# EAGLE library part MT7621A (library ds_ic_peripherals)
MediaTek MT7621A Wi‑Fi SoC contains a powerful 880 MHz MIPS® 1004KEc™ dual‑core CPU, a 5‑port Gigabit Ethernet switch, and a rich array of connectivity options including RGMII, PCIe, USB, SD‑XC, and so on. The new SoC also includes the company’s field proven hardware support for Network Address Translation (NAT), Quality of Service (QoS), SAMBA, Virtual Private Network (VPN) and others routing and tunneling applications, ideal for high performance Wi‑Fi 5, LTE cat4/5, edge, hotspot, VPN routers, NAS, and AC ( Access Point Controller), smart routers routers. Moreover, the MT7621A applies low‑power technology and can fit into 2/4 layers PCB design with good power dissipation.
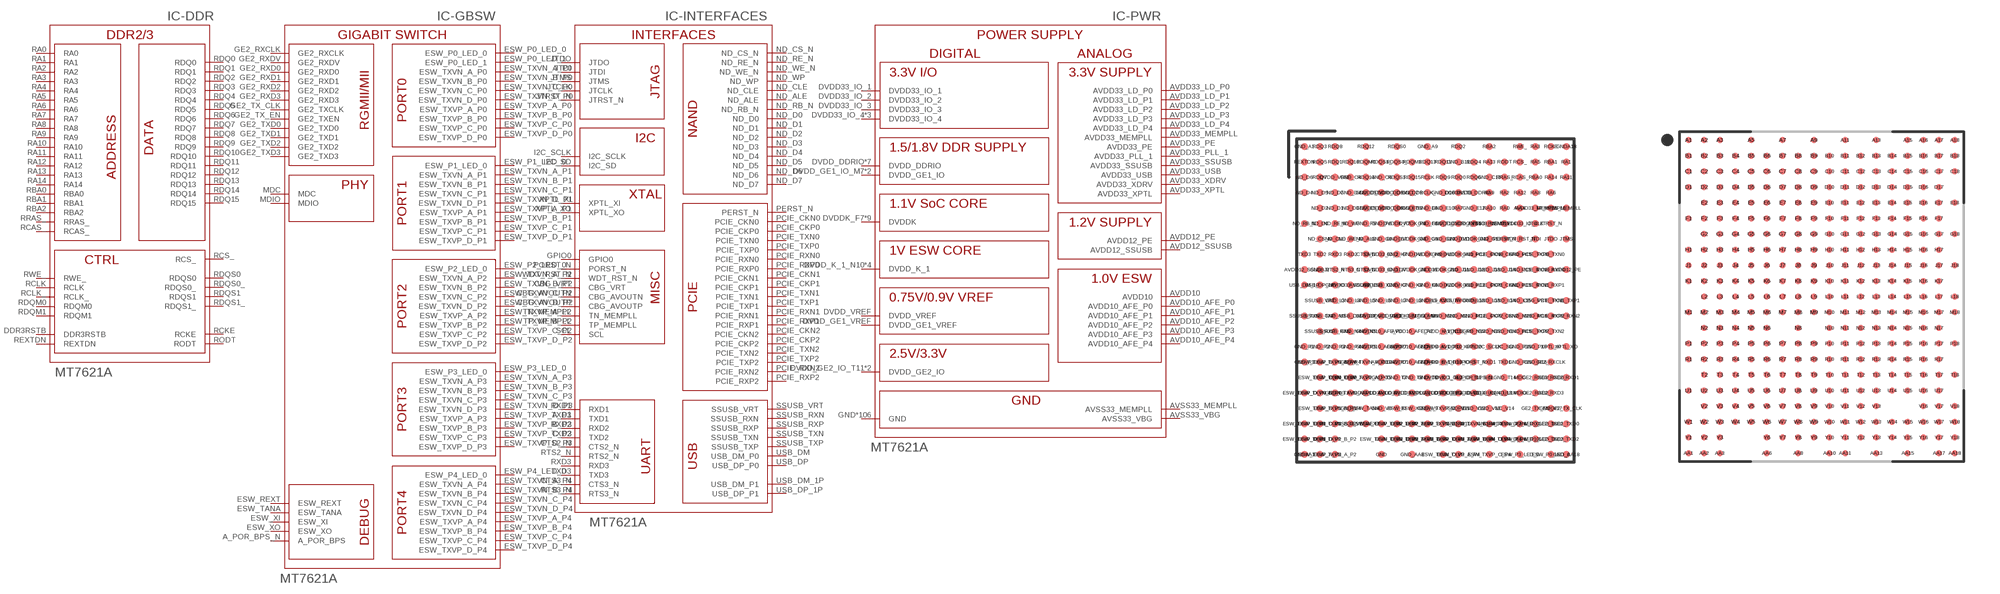
[diagram p62: symbol with the pads of TFBGA-387; footprints TFBGA-387, BGA378C65P18X21_1360X1170X130N]

Designator prefix IC; gates -DDR=MT7621_DDR -GBSW=MT7621_GBSW -INTERFACES=MT7621_INTERFACES -PWR=MT7621_SUPPLY

## MT7621A (MT7621: MT7621A)  [TFBGA-387]
A_POR_BPS_N  -GBSW:A_POR_BPS
AVDD10  -PWR:AVDD10
AVDD10_AFE_P0  -PWR:AVDD10_AFE_P0
AVDD10_AFE_P1  -PWR:AVDD10_AFE_P1
AVDD10_AFE_P2  -PWR:AVDD10_AFE_P2
AVDD10_AFE_P3  -PWR:AVDD10_AFE_P3
AVDD10_AFE_P4  -PWR:AVDD10_AFE_P4
AVDD12_PE  -PWR:AVDD12_PE
AVDD12_SSUSB  -PWR:AVDD12_SSUSB
AVDD33_LD_P0  -PWR:AVDD33_LD_P0
AVDD33_LD_P1  -PWR:AVDD33_LD_P1
AVDD33_LD_P2  -PWR:AVDD33_LD_P2
AVDD33_LD_P3  -PWR:AVDD33_LD_P3
AVDD33_LD_P4  -PWR:AVDD33_LD_P4
AVDD33_MEMPLL  -PWR:AVDD33_MEMPLL
AVDD33_PE  -PWR:AVDD33_PE
AVDD33_PLL_1  -PWR:AVDD33_PLL_1
AVDD33_SSUSB  -PWR:AVDD33_SSUSB
AVDD33_USB  -PWR:AVDD33_USB
AVDD33_XDRV  -PWR:AVDD33_XDRV
AVDD33_XPTL  -PWR:AVDD33_XPTL
AVSS33_MEMPLL  -PWR:AVSS33_MEMPLL
AVSS33_VBG  -PWR:AVSS33_VBG
CBG_AVOUTN  -INTERFACES:CBG_AVOUTN
CBG_AVOUTP  -INTERFACES:CBG_AVOUTP
CBG_VRT  -INTERFACES:CBG_VRT
CTS2_N  -INTERFACES:CTS2_N
CTS3_N  -INTERFACES:CTS3_N
DDR3RSTB  -DDR:DDR3RSTB
DVDD33_IO_1  -PWR:DVDD33_IO_1
DVDD33_IO_2  -PWR:DVDD33_IO_2
DVDD33_IO_3  -PWR:DVDD33_IO_3
DVDD33_IO_4  -PWR:DVDD33_IO_4
DVDD33_IO_4_U12  -PWR:DVDD33_IO_4
DVDD33_IO_4_U13  -PWR:DVDD33_IO_4
DVDD_DDRIO  -PWR:DVDD_DDRIO
DVDD_DDRIO_D6  -PWR:DVDD_DDRIO
DVDD_DDRIO_D7  -PWR:DVDD_DDRIO
DVDD_DDRIO_E6  -PWR:DVDD_DDRIO
DVDD_DDRIO_E7  -PWR:DVDD_DDRIO
DVDD_DDRIO_F11  -PWR:DVDD_DDRIO
DVDD_DDRIO_F12  -PWR:DVDD_DDRIO
DVDD_GE1_IO_M7  -PWR:DVDD_GE1_IO
DVDD_GE1_IO_M8  -PWR:DVDD_GE1_IO
DVDD_GE1_VREF  -PWR:DVDD_GE1_VREF
DVDD_GE2_IO_T11  -PWR:DVDD_GE2_IO
DVDD_GE2_IO_U11  -PWR:DVDD_GE2_IO
DVDD_K_1_N10  -PWR:DVDD_K_1
DVDD_K_1_P10  -PWR:DVDD_K_1
DVDD_K_1_R10  -PWR:DVDD_K_1
DVDD_K_1_T10  -PWR:DVDD_K_1
DVDD_VREF  -PWR:DVDD_VREF
DVDDK_F7  -PWR:DVDDK
DVDDK_F8  -PWR:DVDDK
DVDDK_G8  -PWR:DVDDK
DVDDK_G12  -PWR:DVDDK
DVDDK_H9  -PWR:DVDDK
DVDDK_H11  -PWR:DVDDK
DVDDK_J8  -PWR:DVDDK
DVDDK_J10  -PWR:DVDDK
DVDDK_K11  -PWR:DVDDK
ESW_P0_LED_0  -GBSW:ESW_P0_LED_0
ESW_P0_LED_1  -GBSW:ESW_P0_LED_1
ESW_P1_LED_0  -GBSW:ESW_P1_LED_0
ESW_P2_LED_0  -GBSW:ESW_P2_LED_0
ESW_P3_LED_0  -GBSW:ESW_P3_LED_0
ESW_P4_LED_0  -GBSW:ESW_P4_LED_0
ESW_REXT  -GBSW:ESW_REXT
ESW_TANA  -GBSW:ESW_TANA
ESW_TXVN_A_P0  -GBSW:ESW_TXVN_A_P0
ESW_TXVN_A_P1  -GBSW:ESW_TXVN_A_P1
ESW_TXVN_A_P2  -GBSW:ESW_TXVN_A_P2
ESW_TXVN_A_P3  -GBSW:ESW_TXVN_A_P3
ESW_TXVN_A_P4  -GBSW:ESW_TXVN_A_P4
ESW_TXVN_B_P0  -GBSW:ESW_TXVN_B_P0
ESW_TXVN_B_P1  -GBSW:ESW_TXVN_B_P1
ESW_TXVN_B_P2  -GBSW:ESW_TXVN_B_P2
ESW_TXVN_B_P3  -GBSW:ESW_TXVN_B_P3
ESW_TXVN_B_P4  -GBSW:ESW_TXVN_B_P4
ESW_TXVN_C_P0  -GBSW:ESW_TXVN_C_P0
ESW_TXVN_C_P1  -GBSW:ESW_TXVN_C_P1
ESW_TXVN_C_P2  -GBSW:ESW_TXVN_C_P2
ESW_TXVN_C_P3  -GBSW:ESW_TXVN_C_P3
ESW_TXVN_C_P4  -GBSW:ESW_TXVN_C_P4
ESW_TXVN_D_P0  -GBSW:ESW_TXVN_D_P0
ESW_TXVN_D_P1  -GBSW:ESW_TXVN_D_P1
ESW_TXVN_D_P2  -GBSW:ESW_TXVN_D_P2
ESW_TXVN_D_P3  -GBSW:ESW_TXVN_D_P3
ESW_TXVN_D_P4  -GBSW:ESW_TXVN_D_P4
ESW_TXVP_A_P0  -GBSW:ESW_TXVP_A_P0
ESW_TXVP_A_P1  -GBSW:ESW_TXVP_A_P1
ESW_TXVP_A_P2  -GBSW:ESW_TXVP_A_P2
ESW_TXVP_A_P3  -GBSW:ESW_TXVP_A_P3
ESW_TXVP_A_P4  -GBSW:ESW_TXVP_A_P4
ESW_TXVP_B_P0  -GBSW:ESW_TXVP_B_P0
ESW_TXVP_B_P1  -GBSW:ESW_TXVP_B_P1
ESW_TXVP_B_P2  -GBSW:ESW_TXVP_B_P2
ESW_TXVP_B_P3  -GBSW:ESW_TXVP_B_P3
ESW_TXVP_B_P4  -GBSW:ESW_TXVP_B_P4
ESW_TXVP_C_P0  -GBSW:ESW_TXVP_C_P0
ESW_TXVP_C_P1  -GBSW:ESW_TXVP_C_P1
ESW_TXVP_C_P2  -GBSW:ESW_TXVP_C_P2
ESW_TXVP_C_P3  -GBSW:ESW_TXVP_C_P3
ESW_TXVP_C_P4  -GBSW:ESW_TXVP_C_P4
ESW_TXVP_D_P0  -GBSW:ESW_TXVP_D_P0
ESW_TXVP_D_P1  -GBSW:ESW_TXVP_D_P1
ESW_TXVP_D_P2  -GBSW:ESW_TXVP_D_P2
ESW_TXVP_D_P3  -GBSW:ESW_TXVP_D_P3
ESW_TXVP_D_P4  -GBSW:ESW_TXVP_D_P4
ESW_XI  -GBSW:ESW_XI
ESW_XO  -GBSW:ESW_XO
GE2_RXCLK  -GBSW:GE2_RXCLK
GE2_RXD0  -GBSW:GE2_RXD0
GE2_RXD1  -GBSW:GE2_RXD1
GE2_RXD2  -GBSW:GE2_RXD2
GE2_RXD3  -GBSW:GE2_RXD3
GE2_RXDV  -GBSW:GE2_RXDV
GE2_TX_CLK  -GBSW:GE2_TXCLK
GE2_TX_EN  -GBSW:GE2_TXEN
GE2_TXD0  -GBSW:GE2_TXD0
GE2_TXD1  -GBSW:GE2_TXD1
GE2_TXD2  -GBSW:GE2_TXD2
GE2_TXD3  -GBSW:GE2_TXD3
GND  -PWR:GND
GND_A1  -PWR:GND
GND_A9  -PWR:GND
GND_AA8  -PWR:GND
GND_AA18  -PWR:GND
GND_B11  -PWR:GND
GND_C4  -PWR:GND
GND_C6  -PWR:GND
GND_C13  -PWR:GND
GND_D4  -PWR:GND
GND_D5  -PWR:GND
GND_D8  -PWR:GND
GND_D9  -PWR:GND
GND_D10  -PWR:GND
GND_E5  -PWR:GND
GND_E9  -PWR:GND
GND_E10  -PWR:GND
GND_E12  -PWR:GND
GND_F5  -PWR:GND
GND_F6  -PWR:GND
GND_F9  -PWR:GND
GND_F10  -PWR:GND
GND_F14  -PWR:GND
GND_G6  -PWR:GND
GND_G7  -PWR:GND
GND_G9  -PWR:GND
GND_G10  -PWR:GND
GND_G11  -PWR:GND
GND_G13  -PWR:GND
GND_H7  -PWR:GND
GND_H8  -PWR:GND
GND_H10  -PWR:GND
GND_H12  -PWR:GND
GND_H15  -PWR:GND
GND_J2  -PWR:GND
GND_J7  -PWR:GND
GND_J9  -PWR:GND
GND_J11  -PWR:GND
GND_J12  -PWR:GND
GND_J13  -PWR:GND
GND_J14  -PWR:GND
GND_J15  -PWR:GND
GND_K3  -PWR:GND
GND_K7  -PWR:GND
GND_K8  -PWR:GND
GND_K9  -PWR:GND
GND_K10  -PWR:GND
GND_K12  -PWR:GND
GND_K15  -PWR:GND
GND_L3  -PWR:GND
GND_L4  -PWR:GND
GND_L5  -PWR:GND
GND_L6  -PWR:GND
GND_L7  -PWR:GND
GND_L8  -PWR:GND
GND_L9  -PWR:GND
GND_L12  -PWR:GND
GND_L13  -PWR:GND
GND_L14  -PWR:GND
GND_L15  -PWR:GND
GND_M3  -PWR:GND
GND_M9  -PWR:GND
GND_M10  -PWR:GND
GND_M11  -PWR:GND
GND_M12  -PWR:GND
GND_M15  -PWR:GND
GND_M16  -PWR:GND
GND_N4  -PWR:GND
GND_N5  -PWR:GND
GND_N12  -PWR:GND
GND_N13  -PWR:GND
GND_N14  -PWR:GND
GND_N15  -PWR:GND
GND_P1  -PWR:GND
GND_P2  -PWR:GND
GND_P3  -PWR:GND
GND_P4  -PWR:GND
GND_P5  -PWR:GND
GND_P7  -PWR:GND
GND_P9  -PWR:GND
GND_P15  -PWR:GND
GND_P16  -PWR:GND
GND_R1  -PWR:GND
GND_R4  -PWR:GND
GND_R7  -PWR:GND
GND_R9  -PWR:GND
GND_R15  -PWR:GND
GND_R16  -PWR:GND
GND_T5  -PWR:GND
GND_T7  -PWR:GND
GND_T8  -PWR:GND
GND_T9  -PWR:GND
GND_T14  -PWR:GND
GND_U3  -PWR:GND
GND_U14  -PWR:GND
GND_V4  -PWR:GND
GND_V6  -PWR:GND
GND_V9  -PWR:GND
GND_V11  -PWR:GND
GND_V12  -PWR:GND
GND_V13  -PWR:GND
GND_V17  -PWR:GND
GND_W11  -PWR:GND
GND_W14  -PWR:GND
GNDA18  -PWR:GND
GNDAA1  -PWR:GND
GPIO0  -INTERFACES:GPIO0
I2C_SCLK  -INTERFACES:I2C_SCLK
I2C_SD  -INTERFACES:I2C_SD
JTCLK  -INTERFACES:JTCLK
JTDI  -INTERFACES:JTDI
JTDO  -INTERFACES:JTDO
JTMS  -INTERFACES:JTMS
JTRST_N  -INTERFACES:JTRST_N
MDC  -GBSW:MDC
MDIO  -GBSW:MDIO
ND_ALE  -INTERFACES:ND_ALE
ND_CLE  -INTERFACES:ND_CLE
ND_CS_N  -INTERFACES:ND_CS_N
ND_D0  -INTERFACES:ND_D0
ND_D1  -INTERFACES:ND_D1
ND_D2  -INTERFACES:ND_D2
ND_D3  -INTERFACES:ND_D3
ND_D4  -INTERFACES:ND_D4
ND_D5  -INTERFACES:ND_D5
ND_D6  -INTERFACES:ND_D6
ND_D7  -INTERFACES:ND_D7
ND_RB_N  -INTERFACES:ND_RB_N
ND_RE_N  -INTERFACES:ND_RE_N
ND_WE_N  -INTERFACES:ND_WE_N
ND_WP  -INTERFACES:ND_WP
PCIE_CKN0  -INTERFACES:PCIE_CKN0
PCIE_CKN1  -INTERFACES:PCIE_CKN1
PCIE_CKN2  -INTERFACES:PCIE_CKN2
PCIE_CKP0  -INTERFACES:PCIE_CKP0
PCIE_CKP1  -INTERFACES:PCIE_CKP1
PCIE_CKP2  -INTERFACES:PCIE_CKP2
PCIE_RXN0  -INTERFACES:PCIE_RXN0
PCIE_RXN1  -INTERFACES:PCIE_RXN1
PCIE_RXN2  -INTERFACES:PCIE_RXN2
PCIE_RXP0  -INTERFACES:PCIE_RXP0
PCIE_RXP1  -INTERFACES:PCIE_RXP1
PCIE_RXP2  -INTERFACES:PCIE_RXP2
PCIE_TXN0  -INTERFACES:PCIE_TXN0
PCIE_TXN1  -INTERFACES:PCIE_TXN1
PCIE_TXN2  -INTERFACES:PCIE_TXN2
PCIE_TXP0  -INTERFACES:PCIE_TXP0
PCIE_TXP1  -INTERFACES:PCIE_TXP1
PCIE_TXP2  -INTERFACES:PCIE_TXP2
PERST_N  -INTERFACES:PERST_N
PORST_N  -INTERFACES:PORST_N
RA0  -DDR:RA0
RA1  -DDR:RA1
RA2  -DDR:RA2
RA3  -DDR:RA3
RA4  -DDR:RA4
RA5  -DDR:RA5
RA6  -DDR:RA6
RA7  -DDR:RA7
RA8  -DDR:RA8
RA9  -DDR:RA9
RA10  -DDR:RA10
RA11  -DDR:RA11
RA12  -DDR:RA12
RA13  -DDR:RA13
RA14  -DDR:RA14
RBA0  -DDR:RBA0
RBA1  -DDR:RBA1
RBA2  -DDR:RBA2
RCAS_  -DDR:RCAS_
RCKE  -DDR:RCKE
RCLK  -DDR:RCLK
RCLK_  -DDR:RCLK_
RCS_  -DDR:RCS_
RDQ0  -DDR:RDQ0
RDQ1  -DDR:RDQ1
RDQ2  -DDR:RDQ2
RDQ3  -DDR:RDQ3
RDQ4  -DDR:RDQ4
RDQ5  -DDR:RDQ5
RDQ6  -DDR:RDQ6
RDQ7  -DDR:RDQ7
RDQ8  -DDR:RDQ8
RDQ9  -DDR:RDQ9
RDQ10  -DDR:RDQ10
RDQ11  -DDR:RDQ11
RDQ12  -DDR:RDQ12
RDQ13  -DDR:RDQ13
RDQ14  -DDR:RDQ14
RDQ15  -DDR:RDQ15
RDQM0  -DDR:RDQM0
RDQM1  -DDR:RDQM1
RDQS0  -DDR:RDQS0
RDQS0_  -DDR:RDQS0_
RDQS1  -DDR:RDQS1
RDQS1_  -DDR:RDQS1_
REXTDN  -DDR:REXTDN
RODT  -DDR:RODT
RRAS_  -DDR:RRAS_
RTS2_N  -INTERFACES:RTS2_N
RTS3_N  -INTERFACES:RTS3_N
RWE_  -DDR:RWE_
RXD1  -INTERFACES:RXD1
RXD2  -INTERFACES:RXD2
RXD3  -INTERFACES:RXD3
SCL  -INTERFACES:SCL
SSUSB_RXN  -INTERFACES:SSUSB_RXN
SSUSB_RXP  -INTERFACES:SSUSB_RXP
SSUSB_TXN  -INTERFACES:SSUSB_TXN
SSUSB_TXP  -INTERFACES:SSUSB_TXP
SSUSB_VRT  -INTERFACES:SSUSB_VRT
TN_MEMPLL  -INTERFACES:TN_MEMPLL
TP_MEMPLL  -INTERFACES:TP_MEMPLL
TXD1  -INTERFACES:TXD1
TXD2  -INTERFACES:TXD2
TXD3  -INTERFACES:TXD3
USB_DM  -INTERFACES:USB_DM_P0
USB_DM_1P  -INTERFACES:USB_DM_P1
USB_DP  -INTERFACES:USB_DP_P0
USB_DP_1P  -INTERFACES:USB_DP_P1
WDT_RST_N  -INTERFACES:WDT_RST_N
XPTL_XI  -INTERFACES:XPTL_XI
XPTL_XO  -INTERFACES:XPTL_XO

## MT7621A-TFBGA387  [BGA378C65P18X21_1360X1170X130N]
A1  -PWR:GND
A2  -DDR:RDQ3
A3  -DDR:RDQ8
A5  -DDR:RDQ12
A7  -DDR:RDQS0
A9  -PWR:GND
A11  -DDR:RDQ2
A13  -DDR:RBA2
A15  -DDR:RWE_
A16  -DDR:RA3
A17  -DDR:RCKE
A18  -PWR:GND
AA1  -PWR:GND
AA2  -GBSW:ESW_TXVP_A_P2
AA3  -GBSW:ESW_TXVN_A_P2
AA6  -PWR:GND
AA8  -PWR:GND
AA10  -GBSW:ESW_TXVN_C_P3
AA11  -GBSW:ESW_TXVP_A_P4
AA13  -GBSW:ESW_TXVP_C_P4
AA15  -GBSW:ESW_P3_LED_0
AA17  -GBSW:ESW_P0_LED_0
AA18  -PWR:GND
B1  -DDR:REXTDN
B2  -DDR:RDQ5
B3  -DDR:RDQ1
B4  -DDR:RDQ10
B5  -DDR:RDQM0
B6  -DDR:RDQS1_
B7  -DDR:RDQS0_
B8  -DDR:RDQM1
B9  -DDR:RDQ13
B10  -DDR:RDQ11
B11  -PWR:GND
B12  -DDR:RDQ4
B13  -DDR:RA13
B14  -DDR:RODT
B15  -DDR:RCS_
B16  -DDR:RA5
B17  -DDR:RBA1
B18  -DDR:RA1
C1  -INTERFACES:ND_D6
C2  -DDR:RDQ7
C3  -PWR:DVDD_VREF
C4  -PWR:GND
C5  -DDR:RDQ14
C6  -PWR:GND
C7  -DDR:RDQS1
C8  -DDR:RDQ15
C9  -DDR:RCLK
C10  -DDR:RDQ9
C11  -DDR:RDQ0
C12  -DDR:RDQ6
C13  -PWR:GND
C14  -DDR:RRAS_
C15  -DDR:RCAS_
C16  -DDR:RBA0
C17  -DDR:RA14
C18  -DDR:RA11
D1  -INTERFACES:ND_D4
D2  -INTERFACES:ND_D5
D3  -INTERFACES:ND_D7
D4  -PWR:GND
D5  -PWR:GND
D6  -PWR:DVDD_DDRIO
D7  -PWR:DVDD_DDRIO
D8  -PWR:GND
D9  -DDR:RCLK_
D10  -PWR:GND
D11  -DDR:DDR3RSTB
D12  -PWR:DVDD_DDRIO
D13  -DDR:RA9
D14  -DDR:RA2
D15  -DDR:RA12
D16  -DDR:RA8
D17  -DDR:RA6
E2  -INTERFACES:ND_D2
E3  -INTERFACES:ND_D1
E4  -INTERFACES:ND_D3
E5  -PWR:GND
E6  -PWR:DVDD_DDRIO
E7  -PWR:DVDD_DDRIO
E8  -PWR:GND
E9  -PWR:GND
E10  -PWR:GND
E11  -DDR:RA7
E12  -PWR:GND
E13  -DDR:RA10
E14  -DDR:RA0
E15  -DDR:RA4
E16  -PWR:AVDD33_MEMPLL
E17  -INTERFACES:TP_MEMPLL
E18  -INTERFACES:TN_MEMPLL
F1  -INTERFACES:ND_RB_N
F2  -INTERFACES:ND_D0
F3  -INTERFACES:ND_RE_N
F4  -INTERFACES:ND_WP
F5  -PWR:GND
F6  -PWR:GND
F7  -PWR:DVDDK
F8  -PWR:DVDDK
F9  -PWR:GND
F10  -PWR:GND
F11  -PWR:DVDD_DDRIO
F12  -PWR:DVDD_DDRIO
F13  -PWR:AVSS33_MEMPLL
F14  -PWR:GND
F15  -PWR:DVDD33_IO_4
F16  -INTERFACES:JTCLK
F17  -INTERFACES:JTRST_N
G2  -INTERFACES:ND_CS_N
G3  -INTERFACES:ND_CLE
G4  -INTERFACES:ND_WE_N
G5  -INTERFACES:ND_ALE
G6  -PWR:GND
G7  -PWR:GND
G8  -PWR:DVDDK
G9  -PWR:GND
G10  -PWR:GND
G11  -PWR:GND
G12  -PWR:DVDDK
G13  -PWR:GND
G14  -INTERFACES:PERST_N
G15  -INTERFACES:WDT_RST_N
G16  -INTERFACES:JTDI
G17  -INTERFACES:JTDO
G18  -INTERFACES:JTMS
H1  -INTERFACES:TXD3
H2  -INTERFACES:TXD2
H3  -INTERFACES:RXD3
H4  -INTERFACES:RXD2
H5  -INTERFACES:CTS3_N
H6  -PWR:DVDD33_IO_2
H7  -PWR:GND
H8  -PWR:GND
H9  -PWR:DVDDK
H10  -PWR:GND
H11  -PWR:DVDDK
H12  -PWR:GND
H13  -INTERFACES:PCIE_CKN0
H14  -INTERFACES:PCIE_CKP0
H15  -PWR:GND
H16  -INTERFACES:PCIE_TXP0
H17  -INTERFACES:PCIE_TXN0
J1  -PWR:AVDD12_SSUSB
J2  -PWR:GND
J3  -INTERFACES:RTS2_N
J4  -INTERFACES:RTS3_N
J5  -INTERFACES:CTS2_N
J6  -PWR:DVDD33_IO_1
J7  -PWR:GND
J8  -PWR:DVDDK
J9  -PWR:GND
J10  -PWR:DVDDK
J11  -PWR:GND
J12  -PWR:GND
J13  -PWR:GND
J14  -PWR:GND
J15  -PWR:GND
J16  -INTERFACES:PCIE_RXN0
J17  -INTERFACES:PCIE_RXP0
J18  -PWR:AVDD12_PE
K1  -INTERFACES:USB_DM_P1
K2  -INTERFACES:USB_DP_P1
K3  -PWR:GND
K4  -PWR:AVDD33_SSUSB
K5  -PWR:AVDD33_USB
K6  -PWR:AVDD33_XDRV
K7  -PWR:GND
K8  -PWR:GND
K9  -PWR:GND
K10  -PWR:GND
K11  -PWR:DVDDK
K12  -PWR:GND
K13  -INTERFACES:PCIE_CKP1
K14  -INTERFACES:PCIE_CKN1
K15  -PWR:GND
K16  -INTERFACES:PCIE_RXN1
K17  -INTERFACES:PCIE_RXP1
L2  -INTERFACES:SSUSB_VRT
L3  -PWR:GND
L4  -PWR:GND
L5  -PWR:GND
L6  -PWR:GND
L7  -PWR:GND
L8  -PWR:GND
L9  -PWR:GND
L10  -INTERFACES:CBG_AVOUTP
L11  -INTERFACES:CBG_AVOUTN
L12  -PWR:GND
L13  -PWR:GND
L14  -PWR:GND
L15  -PWR:GND
L16  -INTERFACES:CBG_VRT
L17  -INTERFACES:PCIE_TXN1
L18  -INTERFACES:PCIE_TXP1
M1  -INTERFACES:SSUSB_TXN
M2  -INTERFACES:SSUSB_TXP
M3  -PWR:GND
M4  -INTERFACES:USB_DM_P0
M5  -INTERFACES:USB_DP_P0
M6  -PWR:DVDD_GE1_VREF
M7  -PWR:DVDD_GE1_IO
M8  -PWR:DVDD_GE1_IO
M9  -PWR:GND
M10  -PWR:GND
M11  -PWR:GND
M12  -PWR:GND
M13  -INTERFACES:PCIE_CKP2
M14  -INTERFACES:PCIE_CKN2
M15  -PWR:GND
M16  -PWR:GND
M17  -INTERFACES:PCIE_RXP2
M18  -INTERFACES:PCIE_RXN2
N2  -INTERFACES:SSUSB_RXP
N3  -INTERFACES:SSUSB_RXN
N4  -PWR:GND
N5  -PWR:GND
N6  -PWR:AVDD10_AFE_P0
N8  -PWR:AVDD10_AFE_P2
N10  -PWR:DVDD_K_1
N11  -PWR:AVDD33_PE
N12  -PWR:GND
N13  -PWR:GND
N14  -PWR:GND
N15  -PWR:GND
N16  -INTERFACES:PCIE_TXP2
N17  -INTERFACES:PCIE_TXN2
P1  -PWR:GND
P2  -PWR:GND
P3  -PWR:GND
P4  -PWR:GND
P5  -PWR:GND
P6  -PWR:AVDD10_AFE_P1
P7  -PWR:GND
P8  -PWR:AVDD10_AFE_P3
P9  -PWR:GND
P10  -PWR:DVDD_K_1
P11  -PWR:AVDD33_XPTL
P12  -INTERFACES:GPIO0
P13  -INTERFACES:I2C_SCLK
P14  -INTERFACES:I2C_SD
P15  -PWR:GND
P16  -PWR:GND
P17  -INTERFACES:XPTL_XI
P18  -INTERFACES:XPTL_XO
R1  -PWR:GND
R2  -GBSW:ESW_TXVP_B_P0
R3  -GBSW:ESW_TXVN_B_P0
R4  -PWR:GND
R5  -GBSW:ESW_TXVN_A_P0
R6  -PWR:AVDD10
R7  -PWR:GND
R8  -PWR:AVDD10_AFE_P4
R9  -PWR:GND
R10  -PWR:DVDD_K_1
R11  -PWR:DVDD33_IO_3
R12  -INTERFACES:PORST_N
R13  -INTERFACES:RXD1
R14  -INTERFACES:TXD1
R15  -PWR:GND
R16  -PWR:GND
R17  -GBSW:GE2_RXCLK
T2  -GBSW:ESW_TXVP_C_P0
T3  -GBSW:ESW_TXVN_C_P0
T4  -GBSW:ESW_TXVP_A_P1
T5  -GBSW:ESW_TXVP_A_P0
T6  -PWR:GND
T7  -PWR:GND
T8  -PWR:GND
T9  -PWR:GND
T10  -PWR:DVDD_K_1
T11  -PWR:DVDD_GE2_IO
T12  -GBSW:A_POR_BPS
T13  -INTERFACES:SCL
T14  -PWR:GND
T15  -GBSW:MDC
T16  -GBSW:GE2_RXDV
T17  -GBSW:GE2_RXD0
T18  -GBSW:GE2_RXD1
U1  -GBSW:ESW_TXVP_D_P0
U2  -GBSW:ESW_TXVN_D_P0
U3  -PWR:GND
U4  -GBSW:ESW_TXVN_A_P1
U5  -PWR:AVDD33_LD_P0
U6  -PWR:AVDD33_LD_P1
U7  -PWR:AVDD33_LD_P2
U8  -PWR:AVDD33_PLL_1
U9  -PWR:AVDD33_LD_P3
U10  -PWR:AVDD33_LD_P4
U11  -PWR:DVDD_GE2_IO
U12  -PWR:DVDD33_IO_4
U13  -PWR:DVDD33_IO_4
U14  -PWR:GND
U15  -GBSW:MDIO
U16  -GBSW:GE2_RXD2
U17  -GBSW:GE2_RXD3
V2  -GBSW:ESW_TXVP_B_P1
V3  -GBSW:ESW_TXVN_B_P1
V4  -PWR:GND
V5  -GBSW:ESW_TANA
V6  -PWR:GND
V7  -GBSW:ESW_XI
V8  -GBSW:ESW_XO
V9  -PWR:GND
V10  -GBSW:ESW_TXVP_D_P3
V11  -PWR:GND
V12  -PWR:GND
V13  -PWR:GND
V16  -GBSW:GE2_TXEN
V17  -PWR:GND
V18  -GBSW:GE2_TXCLK
W1  -GBSW:ESW_TXVP_C_P1
W2  -GBSW:ESW_TXVN_C_P1
W3  -GBSW:ESW_TXVN_B_P2
W4  -PWR:AVSS33_VBG
W5  -GBSW:ESW_REXT
W6  -GBSW:ESW_TXVP_C_P2
W7  -GBSW:ESW_TXVP_D_P2
W8  -GBSW:ESW_TXVP_A_P3
W9  -GBSW:ESW_TXVP_B_P3
W10  -GBSW:ESW_TXVN_D_P3
W11  -PWR:GND
W12  -GBSW:ESW_TXVN_B_P4
W13  -PWR:GND
W14  -GBSW:ESW_TXVN_D_P4
W15  -GBSW:ESW_P2_LED_0
W16  -GBSW:ESW_P0_LED_1
W17  -GBSW:GE2_TXD1
W18  -GBSW:GE2_TXD0
Y1  -GBSW:ESW_TXVP_D_P1
Y2  -GBSW:ESW_TXVN_D_P1
Y3  -GBSW:ESW_TXVP_B_P2
Y6  -GBSW:ESW_TXVN_C_P2
Y7  -GBSW:ESW_TXVN_D_P2
Y8  -GBSW:ESW_TXVN_A_P3
Y9  -GBSW:ESW_TXVN_B_P3
Y10  -GBSW:ESW_TXVP_C_P3
Y11  -GBSW:ESW_TXVN_A_P4
Y12  -GBSW:ESW_TXVP_B_P4
Y13  -GBSW:ESW_TXVN_C_P4
Y14  -GBSW:ESW_TXVP_D_P4
Y15  -GBSW:ESW_P4_LED_0
Y16  -GBSW:ESW_P1_LED_0
Y17  -GBSW:GE2_TXD3
Y18  -GBSW:GE2_TXD2

## Footprint TFBGA-387 (pad centres in mm)
smd 0.3 x 0.3: A_POR_BPS_N 1.625,-3.25; AVDD10 -2.275,-2.6; AVDD10_AFE_P0 -2.275,-1.3; AVDD10_AFE_P1 -2.275,-1.95; AVDD10_AFE_P2 -0.975,-1.3; AVDD10_AFE_P3 -0.975,-1.95; AVDD10_AFE_P4 -0.975,-2.6; AVDD12_PE 5.525,1.3; AVDD12_SSUSB -5.525,1.3; AVDD33_LD_P0 -2.925,-3.9; AVDD33_LD_P1 -2.275,-3.9; AVDD33_LD_P2 -1.625,-3.9; AVDD33_LD_P3 -0.325,-3.9; AVDD33_LD_P4 0.325,-3.9; AVDD33_MEMPLL 4.225,3.9; AVDD33_PE 0.975,-1.3; AVDD33_PLL_1 -0.975,-3.9; AVDD33_SSUSB -3.575,0.65; AVDD33_USB -2.925,0.65; AVDD33_XDRV -2.275,0.65; AVDD33_XPTL 0.975,-1.95; AVSS33_MEMPLL 2.275,3.25; AVSS33_VBG -3.575,-5.2; CBG_AVOUTN 0.975,0; CBG_AVOUTP 0.325,0; CBG_VRT 4.225,0; CTS2_N -2.925,1.3; CTS3_N -2.925,1.95; DDR3RSTB 0.975,4.55; DVDD33_IO_1 -2.275,1.3; DVDD33_IO_2 -2.275,1.95; DVDD33_IO_3 0.975,-2.6; DVDD33_IO_4 3.575,3.25; DVDD33_IO_4_U12 1.625,-3.9; DVDD33_IO_4_U13 2.275,-3.9; DVDD_DDRIO 1.625,4.55; DVDD_DDRIO_D6 -2.275,4.55; DVDD_DDRIO_D7 -1.625,4.55; DVDD_DDRIO_E6 -2.275,3.9; DVDD_DDRIO_E7 -1.625,3.9; DVDD_DDRIO_F11 0.975,3.25; DVDD_DDRIO_F12 1.625,3.25; DVDD_GE1_IO_M7 -1.625,-0.65; DVDD_GE1_IO_M8 -0.975,-0.65; DVDD_GE1_VREF -2.275,-0.65; DVDD_GE2_IO_T11 0.975,-3.25; DVDD_GE2_IO_U11 0.975,-3.9; DVDD_K_1_N10 0.325,-1.3; DVDD_K_1_P10 0.325,-1.95; DVDD_K_1_R10 0.325,-2.6; DVDD_K_1_T10 0.325,-3.25; DVDD_VREF -4.225,5.2; DVDDK_F7 -1.625,3.25; DVDDK_F8 -0.975,3.25; DVDDK_G8 -0.975,2.6; DVDDK_G12 1.625,2.6; DVDDK_H9 -0.325,1.95; DVDDK_H11 0.975,1.95; DVDDK_J8 -0.975,1.3; DVDDK_J10 0.325,1.3; DVDDK_K11 0.975,0.65; ESW_P0_LED_0 4.875,-6.5; ESW_P0_LED_1 4.225,-5.2; ESW_P1_LED_0 4.225,-5.85; ESW_P2_LED_0 3.575,-5.2; ESW_P3_LED_0 3.575,-6.5; ESW_P4_LED_0 3.575,-5.85; ESW_REXT -2.925,-5.2; ESW_TANA -2.925,-4.55; ESW_TXVN_A_P0 -2.925,-2.6; ESW_TXVN_A_P1 -3.575,-3.9; ESW_TXVN_A_P2 -4.225,-6.5; ESW_TXVN_A_P3 -0.975,-5.85; ESW_TXVN_A_P4 0.975,-5.85; ESW_TXVN_B_P0 -4.225,-2.6; ESW_TXVN_B_P1 -4.225,-4.55; ESW_TXVN_B_P2 -4.225,-5.2; ESW_TXVN_B_P3 -0.325,-5.85; ESW_TXVN_B_P4 1.625,-5.2; ESW_TXVN_C_P0 -4.225,-3.25; ESW_TXVN_C_P1 -4.875,-5.2; ESW_TXVN_C_P2 -2.275,-5.85; ESW_TXVN_C_P3 0.325,-6.5; ESW_TXVN_C_P4 2.275,-5.85; ESW_TXVN_D_P0 -4.875,-3.9; ESW_TXVN_D_P1 -4.875,-5.85; ESW_TXVN_D_P2 -1.625,-5.85; ESW_TXVN_D_P3 0.325,-5.2; ESW_TXVN_D_P4 2.925,-5.2; ESW_TXVP_A_P0 -2.925,-3.25; ESW_TXVP_A_P1 -3.575,-3.25; ESW_TXVP_A_P2 -4.875,-6.5; ESW_TXVP_A_P3 -0.975,-5.2; ESW_TXVP_A_P4 0.975,-6.5; ESW_TXVP_B_P0 -4.875,-2.6; ESW_TXVP_B_P1 -4.875,-4.55; ESW_TXVP_B_P2 -4.225,-5.85; ESW_TXVP_B_P3 -0.325,-5.2; ESW_TXVP_B_P4 1.625,-5.85; ESW_TXVP_C_P0 -4.875,-3.25; ESW_TXVP_C_P1 -5.525,-5.2; ESW_TXVP_C_P2 -2.275,-5.2; ESW_TXVP_C_P3 0.325,-5.85; ESW_TXVP_C_P4 2.275,-6.5; ESW_TXVP_D_P0 -5.525,-3.9; ESW_TXVP_D_P1 -5.525,-5.85; ESW_TXVP_D_P2 -1.625,-5.2; ESW_TXVP_D_P3 0.325,-4.55; ESW_TXVP_D_P4 2.925,-5.85; ESW_XI -1.625,-4.55; ESW_XO -0.975,-4.55; GE2_RXCLK 4.875,-2.6; GE2_RXD0 4.875,-3.25; GE2_RXD1 5.525,-3.25; GE2_RXD2 4.225,-3.9; GE2_RXD3 4.875,-3.9; GE2_RXDV 4.225,-3.25; GE2_TX_CLK 5.525,-4.55; GE2_TX_EN 4.225,-4.55; GE2_TXD0 5.525,-5.2; GE2_TXD1 4.875,-5.2; GE2_TXD2 5.525,-5.85; GE2_TXD3 4.875,-5.85; GND -2.275,-6.5; GND_A1 -5.525,6.5; GND_A9 -0.325,6.5; GND_AA8 -0.975,-6.5; GND_AA18 5.525,-6.5; GND_B11 0.975,5.85; GND_C4 -3.575,5.2; GND_C6 -2.275,5.2; GND_C13 2.275,5.2; GND_D4 -3.575,4.55; GND_D5 -2.925,4.55; GND_D8 -0.975,4.55; GND_D9 -0.975,3.9; GND_D10 0.325,4.55; GND_E5 -2.925,3.9; GND_E9 -0.325,3.9; GND_E10 0.325,3.9; GND_E12 1.625,3.9; GND_F5 -2.925,3.25; GND_F6 -2.275,3.25; GND_F9 -0.325,3.25; GND_F10 0.325,3.25; GND_F14 2.925,3.25; GND_G6 -2.275,2.6; GND_G7 -1.625,2.6; GND_G9 -0.325,2.6; GND_G10 0.325,2.6; GND_G11 0.975,2.6; GND_G13 2.275,2.6; GND_H7 -1.625,1.95; GND_H8 -0.975,1.95; GND_H10 0.325,1.95; GND_H12 1.625,1.95; GND_H15 3.575,1.95; GND_J2 -4.875,1.3; GND_J7 -1.625,1.3; GND_J9 -0.325,1.3; GND_J11 0.975,1.3; GND_J12 1.625,1.3; GND_J13 2.275,1.3; GND_J14 2.925,1.3; GND_J15 3.575,1.3; GND_K3 -4.225,0.65; GND_K7 -1.625,0.65; GND_K8 -0.975,0.65; GND_K9 -0.325,0.65; GND_K10 0.325,0.65; GND_K12 1.625,0.65; GND_K15 3.575,0.65; GND_L3 -4.225,0; GND_L4 -3.575,0; GND_L5 -2.925,0; GND_L6 -2.275,0; GND_L7 -1.625,0; GND_L8 -0.975,0; GND_L9 -0.325,0; GND_L12 1.625,0; GND_L13 2.275,0; GND_L14 2.925,0; GND_L15 3.575,0; GND_M3 -4.225,-0.65; GND_M9 -0.325,-0.65; GND_M10 0.325,-0.65; GND_M11 0.975,-0.65; GND_M12 1.625,-0.65; GND_M15 3.575,-0.65; GND_M16 4.225,-0.65; GND_N4 -3.575,-1.3; GND_N5 -2.925,-1.3; GND_N12 1.625,-1.3; GND_N13 2.275,-1.3; GND_N14 2.925,-1.3; GND_N15 3.575,-1.3; GND_P1 -5.525,-1.95; GND_P2 -4.875,-1.95; GND_P3 -4.225,-1.95; GND_P4 -3.575,-1.95; GND_P5 -2.925,-1.95; GND_P7 -1.625,-1.95; GND_P9 -0.325,-1.95; GND_P15 3.575,-1.95; GND_P16 4.225,-1.95; GND_R1 -5.525,-2.6; GND_R4 -3.575,-2.6; GND_R7 -1.625,-2.6; GND_R9 -0.325,-2.6; GND_R15 3.575,-2.6; GND_R16 4.225,-2.6; GND_T5 -2.275,-3.25; GND_T7 -1.625,-3.25; GND_T8 -0.975,-3.25; GND_T9 -0.325,-3.25; GND_T14 2.925,-3.25; GND_U3 -4.225,-3.9; GND_U14 2.925,-3.9; GND_V4 -3.575,-4.55; GND_V6 -2.275,-4.55; GND_V9 -0.325,-4.55; GND_V11 0.975,-4.55; GND_V12 1.625,-4.55; GND_V13 2.275,-4.55; GND_V17 4.875,-4.55; GND_W11 0.975,-5.2; GND_W14 2.275,-5.2; GNDA18 5.525,6.5; GNDAA1 -5.525,-6.5; GPIO0 1.625,-1.95; I2C_SCLK 2.275,-1.95; I2C_SD 2.925,-1.95; JTCLK 4.225,3.25; JTDI 4.225,2.6; JTDO 4.875,2.6; JTMS 5.525,2.6; JTRST_N 4.875,3.25; MDC 3.575,-3.25; MDIO 3.575,-3.9; NC_V14 2.925,-4.55; ND_ALE -2.925,2.6; ND_CLE -4.225,2.6; ND_CS_N -4.875,2.6; ND_D0 -4.875,3.25; ND_D1 -4.225,3.9; ND_D2 -4.875,3.9; ND_D3 -3.575,3.9; ND_D4 -5.525,4.55; ND_D5 -4.875,4.55; ND_D6 -5.525,5.2; ND_D7 -4.225,4.55; ND_RB_N -5.525,3.25; ND_RE_N -4.225,3.25; ND_WE_N -3.575,2.6; ND_WP -3.575,3.25; PCIE_CKN0 2.275,1.95; PCIE_CKN1 2.925,0.65; PCIE_CKN2 2.925,-0.65; PCIE_CKP0 2.925,1.95; PCIE_CKP1 2.275,0.65; PCIE_CKP2 2.275,-0.65; PCIE_RXN0 4.225,1.3; PCIE_RXN1 4.225,0.65; PCIE_RXN2 5.525,-0.65; PCIE_RXP0 4.875,1.3; PCIE_RXP1 4.875,0.65; PCIE_RXP2 4.875,-0.65; PCIE_TXN0 4.875,1.95; PCIE_TXN1 4.875,0; PCIE_TXN2 4.875,-1.3; PCIE_TXP0 4.225,1.95; PCIE_TXP1 5.525,0; PCIE_TXP2 4.225,-1.3; PERST_N 2.925,2.6; PORST_N 1.625,-2.6; RA0 2.925,3.9; RA1 5.525,5.85; RA2 2.925,4.55; RA3 4.225,6.5; RA4 3.575,3.9; RA5 4.225,5.85; RA6 4.875,4.55; RA7 0.975,3.9; RA8 4.225,4.55; RA9 2.275,4.55; RA10 2.275,3.9; RA11 5.525,5.2; RA12 3.575,4.55; RA13 2.275,5.85; RA14 4.875,5.2; RBA0 4.225,5.2; RBA1 4.875,5.85; RBA2 2.275,6.5; RCAS_ 3.575,5.2; RCKE 4.875,6.5; RCLK -0.325,5.2; RCLK_ -0.325,4.55; RCS_ 3.575,5.85; RDQ0 0.975,5.2; RDQ1 -4.225,5.85; RDQ2 0.975,6.5; RDQ3 -4.875,6.5; RDQ4 1.625,5.85; RDQ5 -4.875,5.85; RDQ6 1.625,5.2; RDQ7 -4.875,5.2; RDQ8 -4.225,6.5; RDQ9 0.325,5.2; RDQ10 -3.575,5.85; RDQ11 0.325,5.85; RDQ12 -2.925,6.5; RDQ13 -0.325,5.85; RDQ14 -2.925,5.2; RDQ15 -0.975,5.2; RDQM0 -2.925,5.85; RDQM1 -0.975,5.85; RDQS0 -1.625,6.5; RDQS0_ -1.625,5.85; RDQS1 -1.625,5.2; RDQS1_ -2.275,5.85; REXTDN -5.525,5.85; RODT 2.925,5.85; RRAS_ 2.925,5.2; RTS2_N -4.225,1.3; RTS3_N -3.575,1.3; RWE_ 3.575,6.5; RXD1 2.275,-2.6; RXD2 -3.575,1.95; RXD3 -4.225,1.95; SCL 2.275,-3.25; SSUSB_RXN -4.225,-1.3; SSUSB_RXP -4.875,-1.3; SSUSB_TXN -5.525,-0.65; SSUSB_TXP -4.875,-0.65; SSUSB_VRT -4.875,0; TN_MEMPLL 5.525,3.9; TP_MEMPLL 4.875,3.9; TXD1 2.925,-2.6; TXD2 -4.875,1.95; TXD3 -5.525,1.95; USB_DM -3.575,-0.65; USB_DM_1P -5.525,0.65; USB_DP -2.925,-0.65; USB_DP_1P -4.875,0.65; WDT_RST_N 3.575,2.6; XPTL_XI 4.875,-1.95; XPTL_XO 5.525,-1.95

## Footprint BGA378C65P18X21_1360X1170X130N (pad centres in mm)
378-BGA, collapsing, 0.65 mm pitch, 13.60 X 11.70 X 1.30 mm body 378-pin collapsing BGA package with 0.65 mm col pitch and 0.65 mm row pitch with body size 13.60 X 11.70 X 1.30 mm
smd 0.25 x 0.25: A1 -5.525,6.5; A2 -4.875,6.5; A3 -4.225,6.5; A5 -2.925,6.5; A7 -1.625,6.5; A9 -0.325,6.5; A11 0.975,6.5; A13 2.275,6.5; A15 3.575,6.5; A16 4.225,6.5; A17 4.875,6.5; A18 5.525,6.5; AA1 -5.525,-6.5; AA2 -4.875,-6.5; AA3 -4.225,-6.5; AA6 -2.275,-6.5; AA8 -0.975,-6.5; AA10 0.325,-6.5; AA11 0.975,-6.5; AA13 2.275,-6.5; AA15 3.575,-6.5; AA17 4.875,-6.5; AA18 5.525,-6.5; B1 -5.525,5.85; B2 -4.875,5.85; B3 -4.225,5.85; B4 -3.575,5.85; B5 -2.925,5.85; B6 -2.275,5.85; B7 -1.625,5.85; B8 -0.975,5.85; B9 -0.325,5.85; B10 0.325,5.85; B11 0.975,5.85; B12 1.625,5.85; B13 2.275,5.85; B14 2.925,5.85; B15 3.575,5.85; B16 4.225,5.85; B17 4.875,5.85; B18 5.525,5.85; C1 -5.525,5.2; C2 -4.875,5.2; C3 -4.225,5.2; C4 -3.575,5.2; C5 -2.925,5.2; C6 -2.275,5.2; C7 -1.625,5.2; C8 -0.975,5.2; C9 -0.325,5.2; C10 0.325,5.2; C11 0.975,5.2; C12 1.625,5.2; C13 2.275,5.2; C14 2.925,5.2; C15 3.575,5.2; C16 4.225,5.2; C17 4.875,5.2; C18 5.525,5.2; D1 -5.525,4.55; D2 -4.875,4.55; D3 -4.225,4.55; D4 -3.575,4.55; D5 -2.925,4.55; D6 -2.275,4.55; D7 -1.625,4.55; D8 -0.975,4.55; D9 -0.325,4.55; D10 0.325,4.55; D11 0.975,4.55; D12 1.625,4.55; D13 2.275,4.55; D14 2.925,4.55; D15 3.575,4.55; D16 4.225,4.55; D17 4.875,4.55; E2 -4.875,3.9; E3 -4.225,3.9; E4 -3.575,3.9; E5 -2.925,3.9; E6 -2.275,3.9; E7 -1.625,3.9; E8 -0.975,3.9; E9 -0.325,3.9; E10 0.325,3.9; E11 0.975,3.9; E12 1.625,3.9; E13 2.275,3.9; E14 2.925,3.9; E15 3.575,3.9; E16 4.225,3.9; E17 4.875,3.9; E18 5.525,3.9; F1 -5.525,3.25; F2 -4.875,3.25; F3 -4.225,3.25; F4 -3.575,3.25; F5 -2.925,3.25; F6 -2.275,3.25; F7 -1.625,3.25; F8 -0.975,3.25; F9 -0.325,3.25; F10 0.325,3.25; F11 0.975,3.25; F12 1.625,3.25; F13 2.275,3.25; F14 2.925,3.25; F15 3.575,3.25; F16 4.225,3.25; F17 4.875,3.25; G2 -4.875,2.6; G3 -4.225,2.6; G4 -3.575,2.6; G5 -2.925,2.6; G6 -2.275,2.6; G7 -1.625,2.6; G8 -0.975,2.6; G9 -0.325,2.6; G10 0.325,2.6; G11 0.975,2.6; G12 1.625,2.6; G13 2.275,2.6; G14 2.925,2.6; G15 3.575,2.6; G16 4.225,2.6; G17 4.875,2.6; G18 5.525,2.6; H1 -5.525,1.95; H2 -4.875,1.95; H3 -4.225,1.95; H4 -3.575,1.95; H5 -2.925,1.95; H6 -2.275,1.95; H7 -1.625,1.95; H8 -0.975,1.95; H9 -0.325,1.95; H10 0.325,1.95; H11 0.975,1.95; H12 1.625,1.95; H13 2.275,1.95; H14 2.925,1.95; H15 3.575,1.95; H16 4.225,1.95; H17 4.875,1.95; J1 -5.525,1.3; J2 -4.875,1.3; J3 -4.225,1.3; J4 -3.575,1.3; J5 -2.925,1.3; J6 -2.275,1.3; J7 -1.625,1.3; J8 -0.975,1.3; J9 -0.325,1.3; J10 0.325,1.3; J11 0.975,1.3; J12 1.625,1.3; J13 2.275,1.3; J14 2.925,1.3; J15 3.575,1.3; J16 4.225,1.3; J17 4.875,1.3; J18 5.525,1.3; K1 -5.525,0.65; K2 -4.875,0.65; K3 -4.225,0.65; K4 -3.575,0.65; K5 -2.925,0.65; K6 -2.275,0.65; K7 -1.625,0.65; K8 -0.975,0.65; K9 -0.325,0.65; K10 0.325,0.65; K11 0.975,0.65; K12 1.625,0.65; K13 2.275,0.65; K14 2.925,0.65; K15 3.575,0.65; K16 4.225,0.65; K17 4.875,0.65; L2 -4.875,0; L3 -4.225,0; L4 -3.575,0; L5 -2.925,0; L6 -2.275,0; L7 -1.625,0; L8 -0.975,0; L9 -0.325,0; L10 0.325,0; L11 0.975,0; L12 1.625,0; L13 2.275,0; L14 2.925,0; L15 3.575,0; L16 4.225,0; L17 4.875,0; L18 5.525,0; M1 -5.525,-0.65; M2 -4.875,-0.65; M3 -4.225,-0.65; M4 -3.575,-0.65; M5 -2.925,-0.65; M6 -2.275,-0.65; M7 -1.625,-0.65; M8 -0.975,-0.65; M9 -0.325,-0.65; M10 0.325,-0.65; M11 0.975,-0.65; M12 1.625,-0.65; M13 2.275,-0.65; M14 2.925,-0.65; M15 3.575,-0.65; M16 4.225,-0.65; M17 4.875,-0.65; M18 5.525,-0.65; N2 -4.875,-1.3; N3 -4.225,-1.3; N4 -3.575,-1.3; N5 -2.925,-1.3; N6 -2.275,-1.3; N8 -0.975,-1.3; N10 0.325,-1.3; N11 0.975,-1.3; N12 1.625,-1.3; N13 2.275,-1.3; N14 2.925,-1.3; N15 3.575,-1.3; N16 4.225,-1.3; N17 4.875,-1.3; P1 -5.525,-1.95; P2 -4.875,-1.95; P3 -4.225,-1.95; P4 -3.575,-1.95; P5 -2.925,-1.95; P6 -2.275,-1.95; P7 -1.625,-1.95; P8 -0.975,-1.95; P9 -0.325,-1.95; P10 0.325,-1.95; P11 0.975,-1.95; P12 1.625,-1.95; P13 2.275,-1.95; P14 2.925,-1.95; P15 3.575,-1.95; P16 4.225,-1.95; P17 4.875,-1.95; P18 5.525,-1.95; R1 -5.525,-2.6; R2 -4.875,-2.6; R3 -4.225,-2.6; R4 -3.575,-2.6; R5 -2.925,-2.6; R6 -2.275,-2.6; R7 -1.625,-2.6; R8 -0.975,-2.6; R9 -0.325,-2.6; R10 0.325,-2.6; R11 0.975,-2.6; R12 1.625,-2.6; R13 2.275,-2.6; R14 2.925,-2.6; R15 3.575,-2.6; R16 4.225,-2.6; R17 4.875,-2.6; T2 -4.875,-3.25; T3 -4.225,-3.25; T4 -3.575,-3.25; T5 -2.925,-3.25; T6 -2.275,-3.25; T7 -1.625,-3.25; T8 -0.975,-3.25; T9 -0.325,-3.25; T10 0.325,-3.25; T11 0.975,-3.25; T12 1.625,-3.25; T13 2.275,-3.25; T14 2.925,-3.25; T15 3.575,-3.25; T16 4.225,-3.25; T17 4.875,-3.25; T18 5.525,-3.25; U1 -5.525,-3.9; U2 -4.875,-3.9; U3 -4.225,-3.9; U4 -3.575,-3.9; U5 -2.925,-3.9; U6 -2.275,-3.9; U7 -1.625,-3.9; U8 -0.975,-3.9; U9 -0.325,-3.9; U10 0.325,-3.9; U11 0.975,-3.9; U12 1.625,-3.9; U13 2.275,-3.9; U14 2.925,-3.9; U15 3.575,-3.9; U16 4.225,-3.9; U17 4.875,-3.9; V2 -4.875,-4.55; V3 -4.225,-4.55; V4 -3.575,-4.55; V5 -2.925,-4.55; V6 -2.275,-4.55; V7 -1.625,-4.55; V8 -0.975,-4.55; V9 -0.325,-4.55; V10 0.325,-4.55; V11 0.975,-4.55; V12 1.625,-4.55; V13 2.275,-4.55; V16 4.225,-4.55; V17 4.875,-4.55; V18 5.525,-4.55; W1 -5.525,-5.2; W2 -4.875,-5.2; W3 -4.225,-5.2; W4 -3.575,-5.2; W5 -2.925,-5.2; W6 -2.275,-5.2; W7 -1.625,-5.2; W8 -0.975,-5.2; W9 -0.325,-5.2; W10 0.325,-5.2; W11 0.975,-5.2; W12 1.625,-5.2; W13 2.275,-5.2; W14 2.925,-5.2; W15 3.575,-5.2; W16 4.225,-5.2; W17 4.875,-5.2; W18 5.525,-5.2; Y1 -5.525,-5.85; Y2 -4.875,-5.85; Y3 -4.225,-5.85; Y6 -2.275,-5.85; Y7 -1.625,-5.85; Y8 -0.975,-5.85; Y9 -0.325,-5.85; Y10 0.325,-5.85; Y11 0.975,-5.85; Y12 1.625,-5.85; Y13 2.275,-5.85; Y14 2.925,-5.85; Y15 3.575,-5.85; Y16 4.225,-5.85; Y17 4.875,-5.85; Y18 5.525,-5.85